# EAGLE library part LMZ1420X (library DSDEagleLibrary)
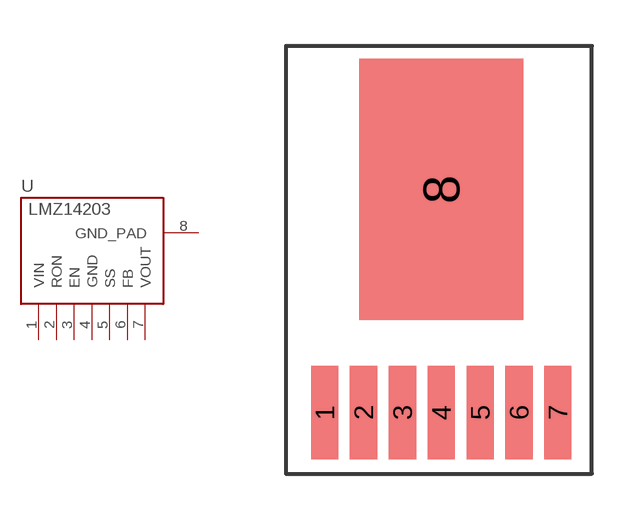
[diagram p12: symbol with the pads of LMZ14201; footprint LMZ14201]

Designator prefix U

## LMZ1420X  [LMZ14201]
1  VIN
2  RON
3  EN
4  GND
5  SS
6  FB
7  VOUT
8  GND_PAD

## Footprint LMZ14201 (pad centres in mm)
More compact land pattern. Not the recommended land pattern of lmz14203ext, page 25. But this has been used on previous versions of board and proved to work.
smd 0.89 x 3.06: 1 -3.73,-6; 2 -2.46,-6; 3 -1.19,-6; 4 0.08,-6; 5 1.35,-6; 6 2.62,-6; 7 3.89,-6
smd 5.35 x 8.54: 8 0.08,1.305